# EAGLE library part MC12093DG (library ON Semiconductor_By_element14_Batch_1)
÷2, ÷4, ÷8 1.1 GHz Low Power Prescaler with Stand-By Mode
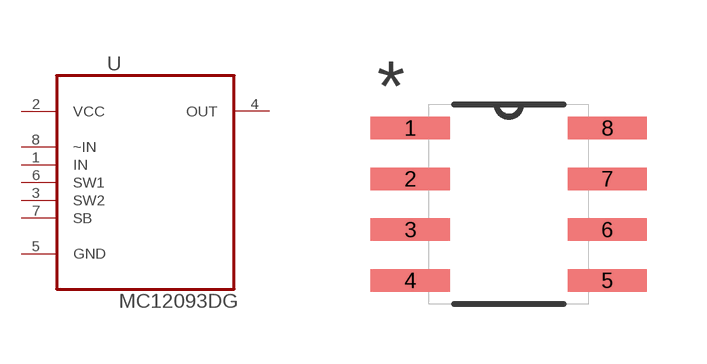
[diagram p188: symbol with the pads of SOIC127P600X175-8N; footprint SOIC127P600X175-8N]

Designator prefix U

## MC12093DG (MPN: MC12093DG; OC_FARNELL: 1607925; OC_NEWARK: 45J1005; PACKAGE: SOIC-8; SUPPLIER: Onsemiconductor)  [SOIC127P600X175-8N]
1  IN  in
2  VCC  pwr
3  SW2  in
4  OUT  out
5  GND  pas
6  SW1  in
7  SB  in
8  ~IN  in

## Footprint SOIC127P600X175-8N (pad centres in mm)
smd 1.981 x 0.559: 1 -2.464,1.905; 2 -2.464,0.635; 3 -2.464,-0.635; 4 -2.464,-1.905; 5 2.464,-1.905; 6 2.464,-0.635; 7 2.464,0.635; 8 2.464,1.905